# EAGLE library part MC3417 (library ruark2)
Continuously Variable Slope Delta (CVSD) Modulator / Demodulator
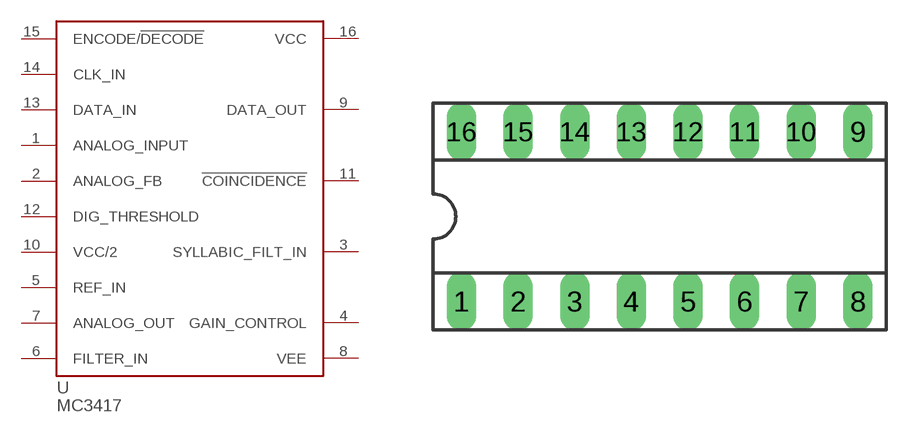
[diagram p184: symbol with the pads of DIP_SOCKET_16; footprint DIP_SOCKET_16]

Designator prefix -

## MC3417  [DIP_SOCKET_16]
1  ANALOG_INPUT
2  ANALOG_FB
3  SYLLABIC_FILT_IN
4  GAIN_CONTROL
5  REF_IN
6  FILTER_IN
7  ANALOG_OUT
8  VEE
9  DATA_OUT
10  VCC/2
11  !COINCIDENCE  out
12  DIG_THRESHOLD
13  DATA_IN
14  CLK_IN
15  ENCODE/!DECODE
16  VCC

## Footprint DIP_SOCKET_16 (pad centres in mm)
drill 0.813 long: 1 -8.89,-3.81; 2 -6.35,-3.81; 3 -3.81,-3.81; 4 -1.27,-3.81; 5 1.27,-3.81; 6 3.81,-3.81; 7 6.35,-3.81; 8 8.89,-3.81; 9 8.89,3.81; 10 6.35,3.81; 11 3.81,3.81; 12 1.27,3.81; 13 -1.27,3.81; 14 -3.81,3.81; 15 -6.35,3.81; 16 -8.89,3.81